# Altium footprint library Battery.PcbLib: 3 footprints
Each footprint in its own frame and in the unit in brackets; x right, y up, seen from the top. Pads: shape width x height; smd on the part's side, far side on the other; paste and mask are expansions set on the pad; w line width, h text height; cw(c..) or ccw(c..) is an arc to the next point about the centre after c.
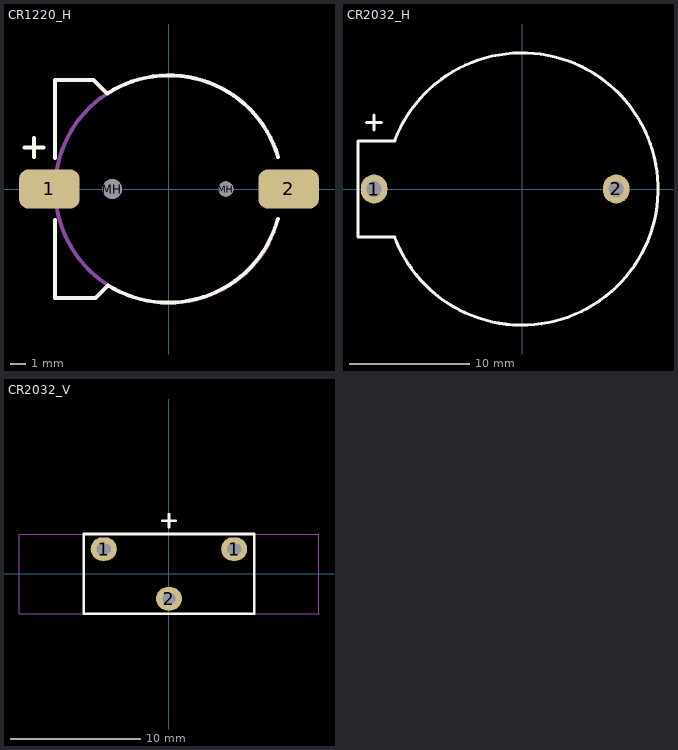
[diagram p0: the footprints below, top view; thin cyan lines are the x and y axes]

## CR1220_H [mm] "CR1220 BATTERY HOLDER HORIZONTAL"
height 4
pads (4):
  rrect50% 4x2.6 smd: 1(-7.9,0.001) 2(7.9,0.001)
  round 1.3 hole 1.3 unplated: MH(-3.75,0)
  round 1 hole 1 unplated: MH(3.75,0)
Top Overlay:
  lines w0.2: -7.53,-7.19 -7.52,-7.2 -4.836,-7.2 -4.007,-6.371
  lines w0.254: -9.544,2.74 -8.274,2.74 ; -8.909,2.105 -8.909,3.375 ; -7.53,-7.19 -7.53,-2.04 ; -7.52,-7.2 -4.84,-7.2 ; -7.52,2.05 -7.52,7.2 -4.975,7.2 ; -4.975,7.195 -4.08,6.3 ; -4.84,-7.19 -4.02,-6.37 ; -4.077,6.295 cw(c0,0) 7.202,2.093 ; -4.007,-6.371 ccw(c-0.05,0) 7.186,-1.972
Mechanical 13:
  lines w0.254: 6.307,4.077 ccw(c0,0) 6.578,-3.624
3D body "xb-12-b3aa008.stp": height 4.2, standoff -0.6, extent -9.629,-7.447 9.621,7.447

## CR2032_H [mm] "CR2032 BATTERY HOLDER HORIZONTAL"
height 3.2
pads (2):
  oval 2.2x2.4 hole 1.2 slot 1.3 at 90 deg: 1(-12.319,0) 2(7.78,0)
Top Overlay:
  lines w0.254: -12.96,5.52 -11.69,5.52 ; -12.325,4.885 -12.325,6.155 ; -10.614,4.013 cw(c-0.05,0) -10.603,-4.039 ; -10.6,-4 -13.65,-4 -13.65,4 -10.6,4
3D body "CR2032_HOR_HOLD.step": height 8.5, standoff -4, extent -13.45,-11 11.05,11

## CR2032_V [mm] "CR2032 BATTERY HOLDER VERTICAL"
height 18.3
pads (3):
  oval 2x1.8 hole 0.8 slot 1.1 at 0 deg: 1(-5,1.9) 1(5,1.9)
  oval 2x1.8 hole 0.8 slot 1 at 0 deg: 2(0,-1.9)
Top Overlay:
  lines w0.2: -0.5,4.06 0.5,4.06 ; 0,3.56 0,4.56 ; 6.547,-3.047 -6.55,-3.047 -6.55,3.053 6.547,3.053 ; 6.55,-3.05 6.55,3.05
Mechanical 15:
  lines w0.05: -11.5,-3.045 -11.5,3.05 11.5,3.05 11.5,-3.045 ; -11.498,-3.047 11.502,-3.047
3D body "xb-05-a1bj001.stp": height 18.3, standoff -2.9, extent -11.589,-3 11.609,3